# EAGLE library part HDR-1X7 (library con-hdrs40)
HEADER CONNECTOR
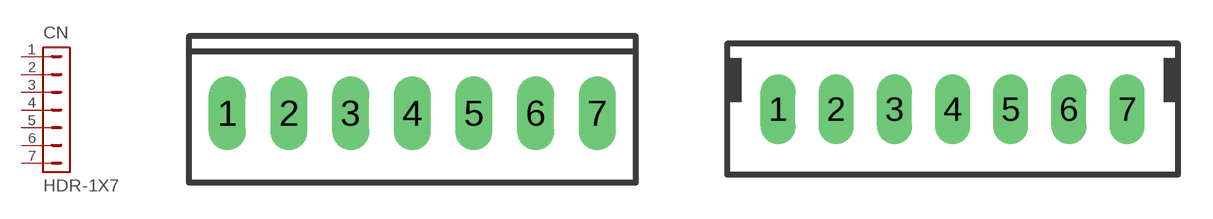
[diagram p1: symbol with the pads of MTA-100-7V; footprints MTA-100-7V, MTE-100-7V]

Designator prefix CN

## HDR-1X7-MTA-100  [MTA-100-7V]
1  1  pas
2  2  pas
3  3  pas
4  4  pas
5  5  pas
6  6  pas
7  7  pas

## HDR-1X7-MTE-100  [MTE-100-7V]
Pads as for MTA-100-7V

## HDR-1X7-MTE-100-L  [MTE-100-7VL]
Pads as for MTA-100-7V

## HDR-1X7-SIP-100  [SIP-100-7V]
Pads as for MTA-100-7V

## HDR-1X7-15-91-?  [15-91-07]
Pads as for MTA-100-7V

## HDR-1X7-70543-?  [70543-07]
Pads as for MTA-100-7V

## HDR-1X7-70553-?  [70553-07]
Pads as for MTA-100-7V

## Footprint MTA-100-7V (pad centres in mm)
AMP MTA Vertical .100" 7 pin
drill 1.016 long: 1 -7.62,0; 2 -5.08,0; 3 -2.54,0; 4 0,0; 5 2.54,0; 6 5.08,0; 7 7.62,0

## Footprint MTE-100-7V (pad centres in mm)
AMP MTE Vertical .100" 7 pin
drill 1.016 long: 1 -7.62,0; 2 -5.08,0; 3 -2.54,0; 4 0,0; 5 2.54,0; 6 5.08,0; 7 7.62,0

## Footprint MTE-100-7VL (pad centres in mm)
AMP MTE Vertical .100" 7 pin w/latch
drill 1.016 long: 1 -7.62,0; 2 -5.08,0; 3 -2.54,0; 4 0,0; 5 2.54,0; 6 5.08,0; 7 7.62,0

## Footprint SIP-100-7V (pad centres in mm)
SIP Header Vertical 100" 7 pin
drill 1.016 long: 1 -7.62,0; 2 -5.08,0; 3 -2.54,0; 4 0,0; 5 2.54,0; 6 5.08,0; 7 7.62,0

## Footprint 15-91-07 (pad centres in mm)
Molex C-Grid SL Connector right angle SMD, 7 pin
smd 1.651 x 5.334: 1 -7.62,-10.795; 2 -5.08,-10.795; 3 -2.54,-10.795; 4 0,-10.795; 5 2.54,-10.795; 6 5.08,-10.795; 7 7.62,-10.795
hole 3.404 at -9.017,0.838
hole 3.404 at 9.017,0.838

## Footprint 70543-07 (pad centres in mm)
Molex C-Grid SL Connector vertical, 7 pin
drill 1.016 long: 1 -7.62,0; 2 -5.08,0; 3 -2.54,0; 4 0,0; 5 2.54,0; 6 5.08,0; 7 7.62,0

## Footprint 70553-07 (pad centres in mm)
Molex C-Grid SL Connector right angle, 7 pin
drill 1.092 long: 1 -7.62,-7.62; 2 -5.08,-7.62; 3 -2.54,-7.62; 4 0,-7.62; 5 2.54,-7.62; 6 5.08,-7.62; 7 7.62,-7.62